# Altium footprint library Switches.PcbLib: 5 footprints
Each footprint in its own frame and in the unit in brackets; x right, y up, seen from the top. Pads: shape width x height; smd on the part's side, far side on the other; paste and mask are expansions set on the pad; w line width, h text height; cw(c..) or ccw(c..) is an arc to the next point about the centre after c.
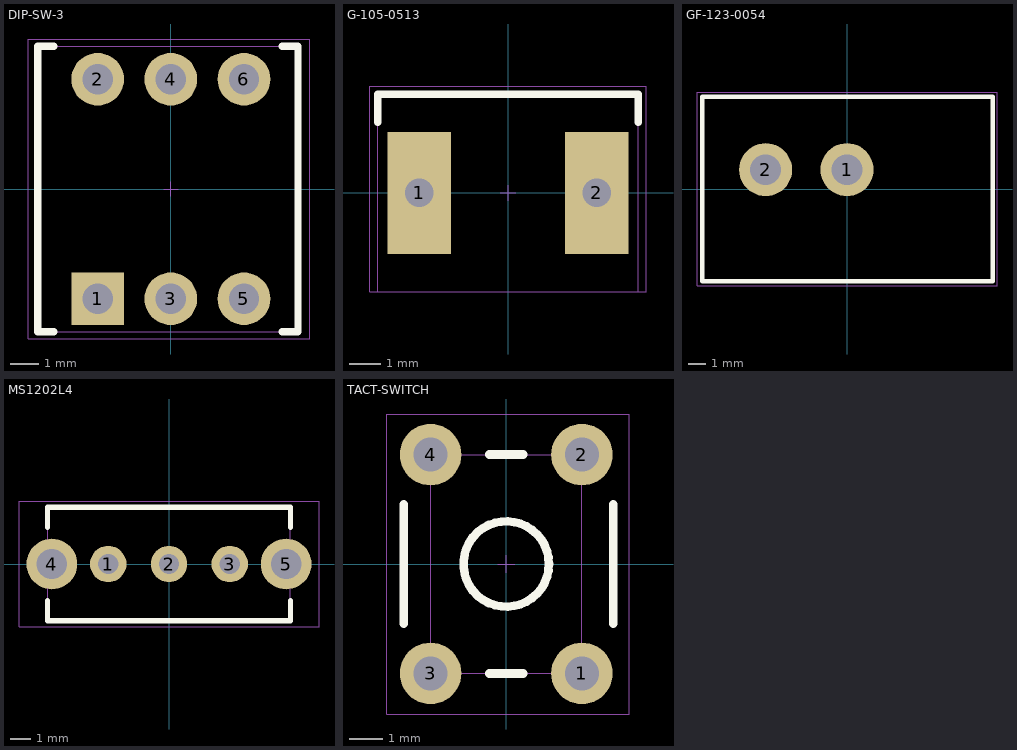
[diagram p0: the footprints below, top view; thin cyan lines are the x and y axes]

## DIP-SW-3 [mil]
pads (6):
  rect 72x72 hole 41.34: 1(-100,-150)
  round 72 hole 41.34: 2(-100,150) 3(0,-150) 4(0,150) 5(100,-150) 6(100,150)
Top Overlay:
  lines w10: -160.12,-194.88 -182.09,-194.88 -182.09,194.88 -160.12,194.88 ; 151.85,-194.88 173.82,-194.88 173.82,194.88 151.85,194.88
Top Courtyard:
  lines w1: -195,-205 -195,205 190,205 190,-205 -195,-205
Top Assembly (Mech8):
  lines w1: -10,0 10,0 ; 0,-10 0,10 ; -182.09,-194.88 173.82,-194.88 173.82,194.88 -182.09,194.88 -182.09,-194.88
3D body "CUI_DEVICES_DS01C-254-S-03BE.step": height 264.28, standoff -111.7, extent -182.09,-194.88 173.82,194.88

## G-105-0513 [mil]
pads (2):
  rect 80x155 hole 36 square: 1(-112.5,0) 2(112.5,0)
Top Overlay:
  lines w10: -165,90 -165,125 165,125 165,90
Top Courtyard:
  lines w1: -175,-125 -175,135 175,135 175,-125 -175,-125
Top Assembly (Mech8):
  lines w1: -10,0 10,0 ; 0,-10 0,10 ; -165,-125 165,-125 165,125 -165,125 -165,-125
3D body: height 500, standoff 0, extent -165,-125 165,125

## GF-123-0054 [mm]
pads (2):
  round 3 hole 1.75: 1(0,1.09) 2(-4.6,1.09)
Top Overlay:
  lines w0.254: -8.181,-5.204 8.255,-5.204 8.255,5.207 -8.181,5.207 -8.181,-5.204
Top Courtyard:
  lines w0.025: -8.484,-5.484 8.484,-5.484 8.484,5.484 -8.484,5.484 -8.484,-5.484
Top Assembly (Mech8):
  lines w0.025: -0.254,0 0.254,0 ; 0,-0.254 0,0.254 ; -8.23,-5.23 8.23,-5.23 8.23,5.23 -8.23,5.23 -8.23,-5.23
3D body "GF-123-0054--3DModel-STEP-56544.STEP": height 14.96, standoff -4.06, extent -8.23,-5.08 8.23,5.08

## MS1202L4 [mm]
pads (5):
  round 1.8 hole 1: 1(-3,0) 2(0,0) 3(3,0)
  round 2.5 hole 1.5: 4(-5.78,0) 5(5.78,0)
Top Overlay:
  lines w0.254: -6,-1.8 -6,-2.8 6,-2.8 6,-1.8 ; -6,1.8 -6,2.8 6,2.8 6,1.8
Top Courtyard:
  lines w0.025: -7.4,-3.1 7.4,-3.1 7.4,3.1 -7.4,3.1 -7.4,-3.1
Top Assembly (Mech8):
  lines w0.025: -0.254,0 0.254,0 ; 0,-0.254 0,0.254 ; -5.98,-2.77 -5.98,2.77 5.98,2.77 5.98,-2.77 -5.98,-2.77
3D body: height 5.95, standoff 0, extent -5.98,-2.77 5.98,2.77

## TACT-SWITCH [mil]
pads (4):
  round 72 hole 40: 1(88.58,-127.95) 2(88.58,127.95) 3(-88.58,-127.95) 4(-88.58,127.95)
Top Overlay:
  circle w10: c0,0 r50
  lines w10: -120,-70 -120,70 ; -20,-128.11 20,-128.11 ; -20,128.11 20,128.11 ; 125,-70 125,70
Top Courtyard:
  lines w1: -140,-175.51 -140,175.51 144.09,175.51 144.09,-175.51 -140,-175.51
Top Assembly (Mech8):
  lines w1: -10,0 10,0 ; 0,-10 0,10 ; -88.58,-127.95 88.58,-127.95 88.58,127.95 -88.58,127.95 -88.58,-127.95
3D body "TACTSWITCH.step": height 275.59, standoff -137.8, extent -120,-155.51 124.09,155.51